# EAGLE library part L293DD (library MILESTONE4LIB_E)
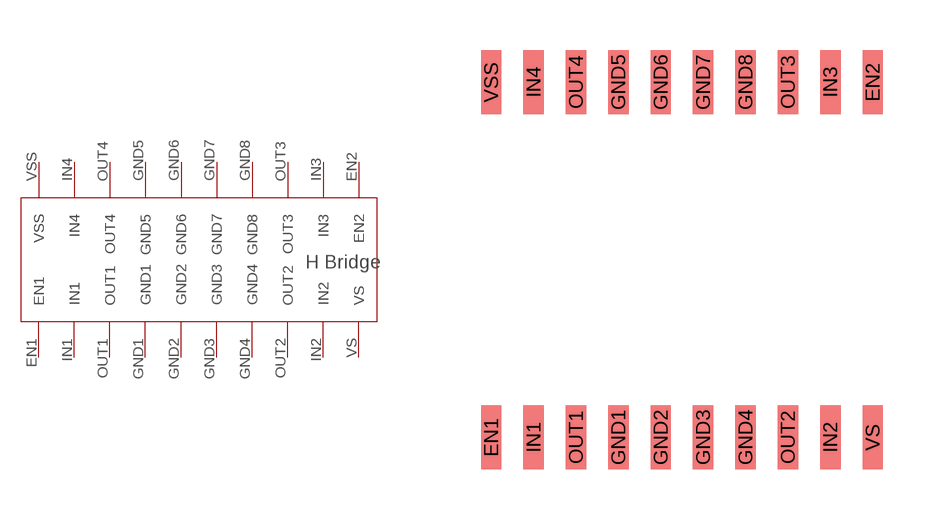
[diagram p3: symbol with the pads of SOIC20; footprint SOIC20]

Designator prefix -

## L293DD  [SOIC20]
EN1  EN1
EN2  EN2
GND1  GND1
GND2  GND2
GND3  GND3
GND4  GND4
GND5  GND5
GND6  GND6
GND7  GND7
GND8  GND8
IN1  IN1
IN2  IN2
IN3  IN3
IN4  IN4
OUT1  OUT1
OUT2  OUT2
OUT3  OUT3
OUT4  OUT4
VS  VS
VSS  VSS

## Footprint SOIC20 (pad centres in mm)
smd 0.61 x 1.93: EN1 -5.715,-5.325; EN2 5.715,5.325; GND1 -1.905,-5.325; GND2 -0.635,-5.325; GND3 0.635,-5.325; GND4 1.905,-5.325; GND5 -1.905,5.325; GND6 -0.635,5.325; GND7 0.635,5.325; GND8 1.905,5.325; IN1 -4.445,-5.325; IN2 4.445,-5.325; IN3 4.445,5.325; IN4 -4.445,5.325; OUT1 -3.175,-5.325; OUT2 3.175,-5.325; OUT3 3.175,5.325; OUT4 -3.175,5.325; VS 5.715,-5.325; VSS -5.715,5.325